# Altium footprint library CAMERON.PcbLib: 58 footprints (part 2 of 4)
Each footprint in its own frame and in the unit in brackets; x right, y up, seen from the top. Pads: shape width x height; smd on the part's side, far side on the other; paste and mask are expansions set on the pad; w line width, h text height; cw(c..) or ccw(c..) is an arc to the next point about the centre after c.
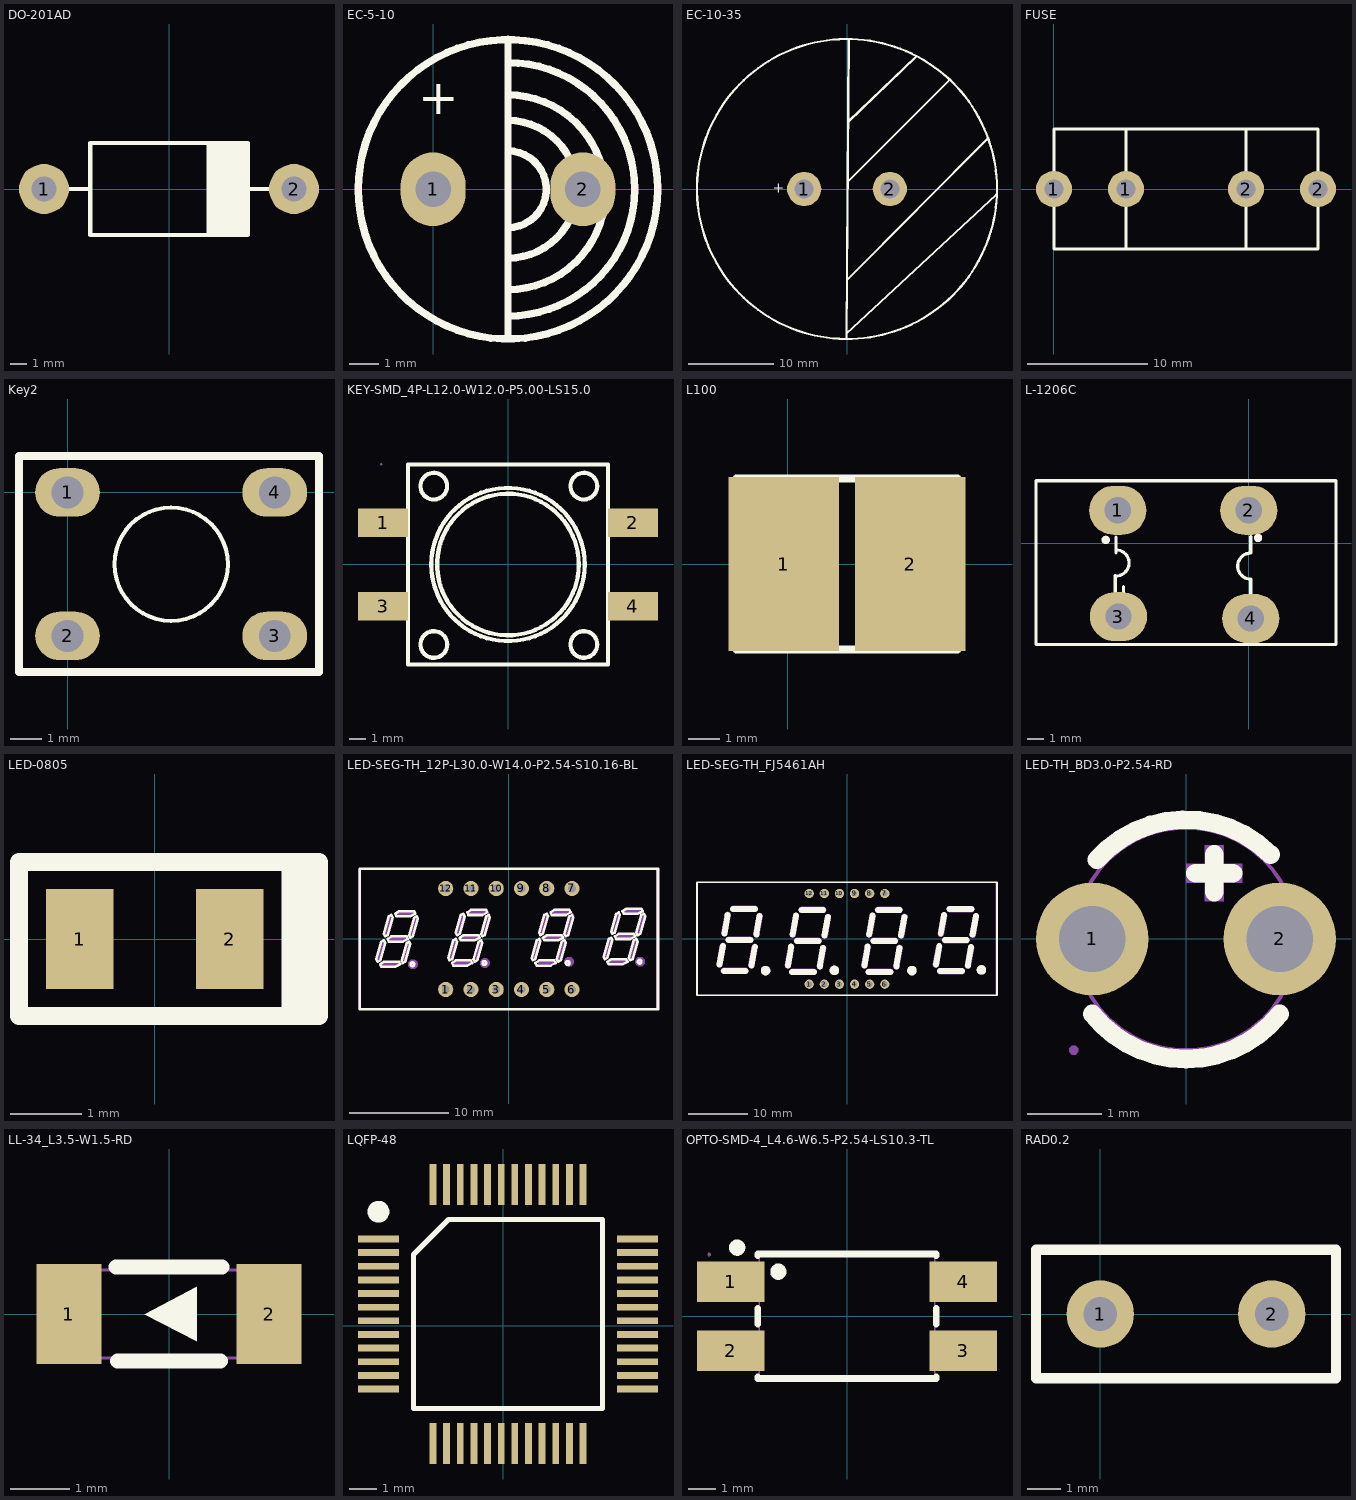
[diagram p1: the footprints below, top view; thin cyan lines are the x and y axes]

## DO-201AD [mil]
height 80
pads (2):
  round 120 hole 59.06: 1(-300,0) 2(300,0)
Top Overlay:
  lines w10: -240.16,0 -188.98,0 ; 94.49,-110.24 94.49,110.24 ; 102.36,-110.24 102.36,110.24 ; 110.24,-110.24 110.24,110.24 ; 118.11,-110.24 118.11,110.24 ; 125.98,-110.24 125.98,110.24 ; 133.86,-110.24 133.86,110.24 ; 141.73,-110.24 141.73,110.24 ; 149.61,-110.24 149.61,110.24 ; 157.48,-110.24 157.48,110.24 ; 165.35,-110.24 165.35,110.24 ; 173.23,-110.24 173.23,110.24 ; 181.1,-110.24 181.1,110.24 ; 188.98,0 240.16,0 ; -188.98,-110.24 -188.98,110.24 188.98,110.24 188.98,-110.24 -188.98,-110.24

## EC-5-10 [mm]
pads (2):
  oval 2.2x2.5 hole 1.2: 1(0,0) 2(5.08,0)
Top Overlay:
  circle w0.254: c2.54,0 r5.08
  lines w0.254: 2.54,-5 2.54,5.1 ; 2.54,-4.3 ccw(c2.54,0) 2.54,4.3 ; 2.54,-3.4 ccw(c2.54,-0.1) 2.54,3.2 ; 2.54,-2.335 ccw(c2.54,0) 2.54,2.335 ; 2.54,-1.3 ccw(c2.54,0) 2.54,1.3
  text "+" at -0.508,2.54 h1.2

## EC-10-35 [mm]
pads (2):
  round 4 hole 2.2: 1(-5,0) 2(5,0)
Top Overlay:
  circle w0.254: c0,0 r17.5
  lines w0.254: -0.072,-17.45 0.203,17.475 ; -0.07,-16.89 17.402,-0.675 ; 0.031,-10.571 16.485,5.944 ; 0.072,0.737 0.072,0.834 11.989,12.751 12.04,12.751 ; 0.173,7.878 8.026,15.392
  text "+" at -8.636,-0.432 h1.2

## FUSE [mm]
pads (4):
  round 3 hole 1.6: 1(0,0) 1(6,0) 2(16,0) 2(22,0)
Top Overlay:
  lines w0.254: 6,-5 6,5 ; 16,-5 16,5 ; 0,-5 0,5 22,5 22,-5 0,-5

## Key2 [mm]
pads (4):
  oval 2.032x1.524 hole 1: 1(0,0) 2(0,-4.5) 3(6.5,-4.5) 4(6.5,0)
Top Overlay:
  circle w0.127: c3.25,-2.25 r1.778
  lines w0.254: 7.89,1.092 7.89,-5.63 -1.524,-5.63 -1.524,1.14 7.89,1.14

## KEY-SMD_4P-L12.0-W12.0-P5.00-LS15.0 [mm]
pads (4):
  rect 3x1.7 smd: 1(-7.499,2.5) 2(7.499,2.5) 3(-7.499,-2.5) 4(7.499,-2.5)
Top Overlay:
  circle w0.254: c0,0 r4.25
  circle w0.254: c-4.451,-4.799 r0.8
  circle w0.254: c4.55,-4.799 r0.8
  circle w0.254: c-4.453,4.701 r0.8
  circle w0.254: c4.548,4.701 r0.8
  circle w0.254: c0,0 r4.6
  lines w0.254: -6,-6 -6,6 6,6 6,-6 -6,-6
Mechanical 15:
  region: 7,2 7,3 7.6,3 7.6,2
  region: 5.99,2 5.99,3 7.01,3 7.01,2
  region: 7,-3 7,-2 7.6,-2 7.6,-3
  region: 5.99,-3 5.99,-2 7.01,-2 7.01,-3
  region: -7.6,-3 -7.6,-2 -7,-2 -7,-3
  region: -7.01,-3 -7.01,-2 -5.99,-2 -5.99,-3
  region: -7.6,2 -7.6,3 -7,3 -7,2
  region: -7.01,2 -7.01,3 -5.99,3 -5.99,2
  region: -7.54,6 -7.54,6.025 -7.575,6.06 -7.625,6.06 -7.66,6.025 -7.66,6 -7.66,5.975 -7.625,5.94 -7.575,5.94 -7.54,5.975
  lines w0.051: -6,-6 6,-6 6,6 -6,6 -6,-6

## L100 [mm]
pads (2):
  rect 3.5x5.5 smd paste+0: 1(-0.127,0)
  rect 3.5x5.5 smd: 2(3.873,0)
Top Overlay:
  lines w0.254: -1.627,-2.7 -1.627,2.7 5.373,2.7 5.373,-2.7 -1.627,-2.7

## L-1206C [mm]
pads (4):
  oval 3.5x3 hole 1.6: 1(-8,2) 2(0,2) 3(-7.96,-4.498) 4(0.127,-4.609)
Top Overlay:
  circle w0.254: c0.571,0.312 r0.127
  circle w0.254: c-8.739,0.193 r0.127
  lines w0.2: -13,-6.2 -13,3.8 ; -8.159,-4 -8.159,-2 ; -8.114,-2.017 ccw(c-8.114,-1.217) -8.114,-0.417 ; -8.114,-0.609 -8.114,0.351 ; -7.655,-3.067 -7.655,-2.667 ; 0.127,-4.209 0.127,-2.209 cw(c0.127,-1.409) 0.127,-0.609 0.127,0.391 ; 0.142,-5.885 0.142,-5.485 ; 5.334,-6.2 5.334,3.8
  lines w0.203: -13,-6.2 5.334,-6.2 ; -13,3.8 5.334,3.8

## LED-0805 [mm]
height 0.8
pads (2):
  rect 0.95x1.4 smd: 1(-1.05,0) 2(1.05,0)
Top Overlay:
  lines w0.254: 1.9,-1.08 1.9,1.08 ; 2.1,-1.08 2.1,1.08 ; -1.9,-1.08 -1.9,1.08 2.3,1.08 2.3,-1.08 -1.9,-1.08

## LED-SEG-TH_12P-L30.0-W14.0-P2.54-S10.16-BL [mil]
pads (12):
  round 60 hole 30: 1(-250,-200) 2(-150,-200) 3(-50,-200) 4(50,-200) 5(150,-200) 6(250,-200) 7(250,200) 8(150,200) 9(50,200) 10(-50,200) 11(-150,200) 12(-250,200)
Top Overlay:
  drawing of 200 lines, arcs and shapes, not listed
Mechanical 6:
  drawing of 32 lines, arcs and shapes, not listed
Mechanical 15:
  drawing of 17 lines, arcs and shapes, not listed

## LED-SEG-TH_FJ5461AH [mm]
pads (12):
  round 1.55 hole 0.9: 1(-6.35,-7.62) 2(-3.81,-7.62) 3(-1.27,-7.62) 4(1.27,-7.62) 5(3.81,-7.62) 6(6.35,-7.62) 7(6.35,7.62) 8(3.81,7.62) 9(1.27,7.62) 10(-1.27,7.62) 11(-3.81,7.62) 12(-6.35,7.62)
Top Overlay:
  lines w0.254: 25.2,-9.5 25.2,9.5 ; 25.2,-9.5 -25.2,-9.5 -25.2,9.5 25.2,9.5
  lines w1: -21.412,-4.293 -20.853,-1.168 ; -20.701,-5.385 -17.043,-5.385 ; -20.599,0.914 -20.041,4.039 ; -19.888,-0.178 -16.231,-0.178 ; -19.126,5.029 -15.469,5.029 ; -16.053,-4.47 -15.494,-1.346 ; -15.24,0.737 -14.681,3.861 ; -13.683,-5.037 ccw(c-13.679,-5.333) -13.679,-5.629 ccw(c-13.679,-5.333) -13.675,-5.037 ; -9.931,-4.445 -9.373,-1.321 ; -9.22,-5.537 -5.563,-5.537 ; -9.119,0.762 -8.56,3.886 ; -8.407,-0.33 -4.75,-0.33 ; -7.645,4.877 -3.988,4.877 ; -4.572,-4.623 -4.013,-1.499 ; -3.759,0.584 -3.2,3.708 ; -2.126,-5.011 ccw(c-2.122,-5.307) -2.122,-5.603 ccw(c-2.122,-5.307) -2.118,-5.011 ; 2.921,-4.445 3.48,-1.321 ; 3.632,-5.537 7.29,-5.537 ; 3.734,0.762 4.293,3.886 ; 4.445,-0.33 8.103,-0.33 ; 5.207,4.877 8.865,4.877 ; 8.28,-4.623 8.839,-1.499 ; 9.093,0.584 9.652,3.708 ; 10.904,-5.037 ccw(c10.908,-5.333) 10.908,-5.629 ccw(c10.908,-5.333) 10.912,-5.037 ; 14.935,-4.343 15.494,-1.219 ; 15.646,-5.436 19.304,-5.436 ; 15.748,0.864 16.307,3.988 ; 16.459,-0.229 20.117,-0.229 ; 17.221,4.978 20.879,4.978 ; 20.295,-4.521 20.853,-1.397 ; 21.107,0.686 21.666,3.81 ; 22.588,-4.935 ccw(c22.592,-5.231) 22.592,-5.527 ccw(c22.592,-5.231) 22.596,-4.935
Mechanical 6:
  drawing of 32 lines, arcs and shapes, not listed
Mechanical 15:
  drawing of 17 lines, arcs and shapes, not listed

## LED-TH_BD3.0-P2.54-RD [mil]
pads (2):
  round 60 hole 35.43: 1(-50,0) 2(50,0)
Top Overlay:
  lines w10: -50,-40 ccw(c0,0) 50,-40 ; -47.56,42.28 cw(c0,0) 45,45 ; 5,35 25,35 ; 15,25 15,45
Mechanical 6:
  region: 10,50 10,20 20,20 20,50
  region: 0,30 0,40 30,40 30,30
Mechanical 15:
  region: 40.16,9.84 59.84,9.84 59.84,-9.84 40.16,-9.84
  region: -59.84,9.84 -40.16,9.84 -40.16,-9.84 -59.84,-9.84
  region: -57.48,-59.3 -57.5,-58.34 -58.88,-56.99 -60.8,-56.99 -62.18,-58.34 -62.2,-59.3 -62.18,-60.26 -60.8,-61.61 -58.88,-61.61 -57.5,-60.26
  lines w2: -59.06,0 ccw(c0,-0.24) 59.06,0 ccw(c0,0.24) -59.05,0

## LL-34_L3.5-W1.5-RD [mm]
pads (2):
  rect 1.1x1.7 smd: 1(-1.7,0) 2(1.7,0)
Top Overlay:
  region: -0.42,-0.005 -0.415,0 0.475,0.46 0.475,-0.46
  lines w0.254: -0.9,0.8 0.9,0.8 ; -0.878,-0.8 0.878,-0.8
Mechanical 6:
  region: -1.365,-0.096 -2.026,-0.096 -2.026,0.082 -1.365,0.082
  region: 2.035,-0.096 1.374,-0.096 1.374,0.082 2.035,0.082
  region: 1.604,-0.335 1.604,0.326 1.782,0.326 1.782,-0.335
Mechanical 15:
  region: -1.346,-0.75 -1.746,-0.75 -1.746,0.75 -1.346,0.75
  region: 1.754,-0.75 1.354,-0.75 1.354,0.75 1.754,0.75
  region: -1.686,-0.75 -1.686,-0.725 -1.721,-0.69 -1.771,-0.69 -1.806,-0.725 -1.806,-0.75 -1.806,-0.775 -1.771,-0.81 -1.721,-0.81 -1.686,-0.775
  lines w0.051: -1.746,-0.75 1.754,-0.75 1.754,0.75 -1.746,0.75 -1.746,-0.75

## LQFP-48 [mm]
pads (48):
  rect 1.5x0.25 smd: 1(-4.568,3.175) 2(-4.568,2.675) 3(-4.568,2.175) 4(-4.568,1.675) 5(-4.568,1.175) 6(-4.568,0.675) 7(-4.568,0.175) 8(-4.568,-0.325) 9(-4.568,-0.825) 10(-4.568,-1.325) 11(-4.568,-1.825) 12(-4.568,-2.325) 25(4.932,-2.325) 26(4.932,-1.825) 27(4.932,-1.325) 28(4.932,-0.825) 29(4.932,-0.325) 30(4.932,0.175) 31(4.932,0.675) 32(4.932,1.175) 33(4.932,1.675) 34(4.932,2.175) 35(4.932,2.675) 36(4.932,3.175)
  rect 0.25x1.5 smd: 13(-2.568,-4.325) 14(-2.068,-4.325) 15(-1.568,-4.325) 16(-1.068,-4.325) 17(-0.568,-4.325) 18(-0.068,-4.325) 19(0.432,-4.325) 20(0.932,-4.325) 21(1.432,-4.325) 22(1.932,-4.325) 23(2.432,-4.325) 24(2.932,-4.325) 37(2.932,5.175) 38(2.432,5.175) 39(1.932,5.175) 40(1.432,5.175) 41(0.932,5.175) 42(0.432,5.175) 43(-0.068,5.175) 44(-0.568,5.175) 45(-1.068,5.175) 46(-1.568,5.175) 47(-2.068,5.175) 48(-2.568,5.175)
Top Overlay:
  circle w0.4: c-4.568,4.175 r0.2
  lines w0.2: -3.283,-3.04 3.647,-3.04 3.647,3.89 -1.998,3.89 -3.283,2.605 -3.283,-3.04

## OPTO-SMD-4_L4.6-W6.5-P2.54-LS10.3-TL [mm]
pads (4):
  rect 2.5x1.5 smd: 1(-4.3,1.27) 2(-4.3,-1.27) 3(4.3,-1.27) 4(4.3,1.27)
Top Overlay:
  circle w0.3: c-2.54,1.651 r0.15
  circle w0.3: c-4.064,2.54 r0.15
  lines w0.254: -3.3,-2.251 -3.3,-2.3 3.3,-2.3 3.3,-2.251 ; -3.3,-0.289 -3.3,0.289 ; -3.3,2.251 -3.3,2.3 3.3,2.3 3.3,2.251 ; 3.3,-0.289 3.3,0.289
Mechanical 6:
  circle w0.6: c-4.572,1.27 r0.3
Mechanical 15:
  region: -3.15,-0.67 -3.15,-1.87 -4.11,-1.87 -4.11,-0.67
  region: -3.15,1.87 -3.15,0.67 -4.11,0.67 -4.11,1.87
  region: 3.15,-1.87 3.15,-0.67 4.11,-0.67 4.11,-1.87
  region: -4.1,-0.67 -4.1,-1.87 -5.1,-1.87 -5.1,-0.67
  region: -4.1,1.87 -4.1,0.67 -5.1,0.67 -5.1,1.87
  region: 3.15,0.67 3.15,1.87 4.11,1.87 4.11,0.67
  region: 4.1,0.67 4.1,1.87 5.1,1.87 5.1,0.67
  region: 4.1,-1.87 4.1,-0.67 5.1,-0.67 5.1,-1.87
  region: -5.04,2.29 -5.04,2.315 -5.075,2.35 -5.125,2.35 -5.16,2.315 -5.16,2.29 -5.16,2.265 -5.125,2.23 -5.075,2.23 -5.04,2.265
  lines w0.051: -3.25,-2.29 -3.25,2.29 3.25,2.29 3.25,-2.29 -3.25,-2.29

## RAD0.2 [mm]
pads (2):
  round 2 hole 1: 1(0,0) 2(5.08,0)
Top Overlay:
  lines w0.305: -1.905,-1.905 6.985,-1.905 6.985,1.905 -1.905,1.905 -1.905,-1.905